# EAGLE library part PAM8403 (library ds_ic_peripherals)
FILTERLESS 3W CLASS-D STEREO AUDIO AMPLIFIER
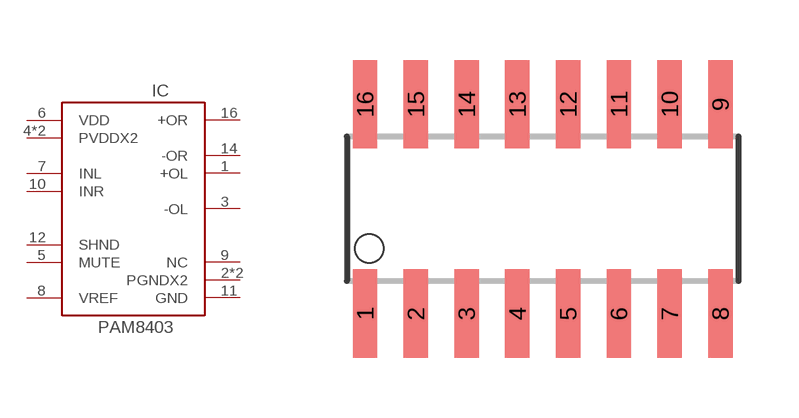
[diagram p45: symbol with the pads of SO16; footprint SO16]

Designator prefix IC

## PAM8403  [SO16]
1  +OL
2  PGNDX2
3  -OL
4  PVDDX2
5  MUTE
6  VDD
7  INL
8  VREF
9  NC
10  INR
11  GND
12  SHND
13  PVDDX2
14  -OR
15  PGNDX2
16  +OR

## Footprint SO16 (pad centres in mm)
smd 0.61 x 2.21: 1 -4.445,-2.616; 2 -3.175,-2.616; 3 -1.905,-2.616; 4 -0.635,-2.616; 5 0.635,-2.616; 6 1.905,-2.616; 7 3.175,-2.616; 8 4.445,-2.616; 9 4.445,2.616; 10 3.175,2.616; 11 1.905,2.616; 12 0.635,2.616; 13 -0.635,2.616; 14 -1.905,2.616; 15 -3.175,2.616; 16 -4.445,2.616